# Altium schematic symbol library Adams Altium Library.SchLib: 70 symbols
Pins are listed as number, name and electrical type; pins without a type are passive.

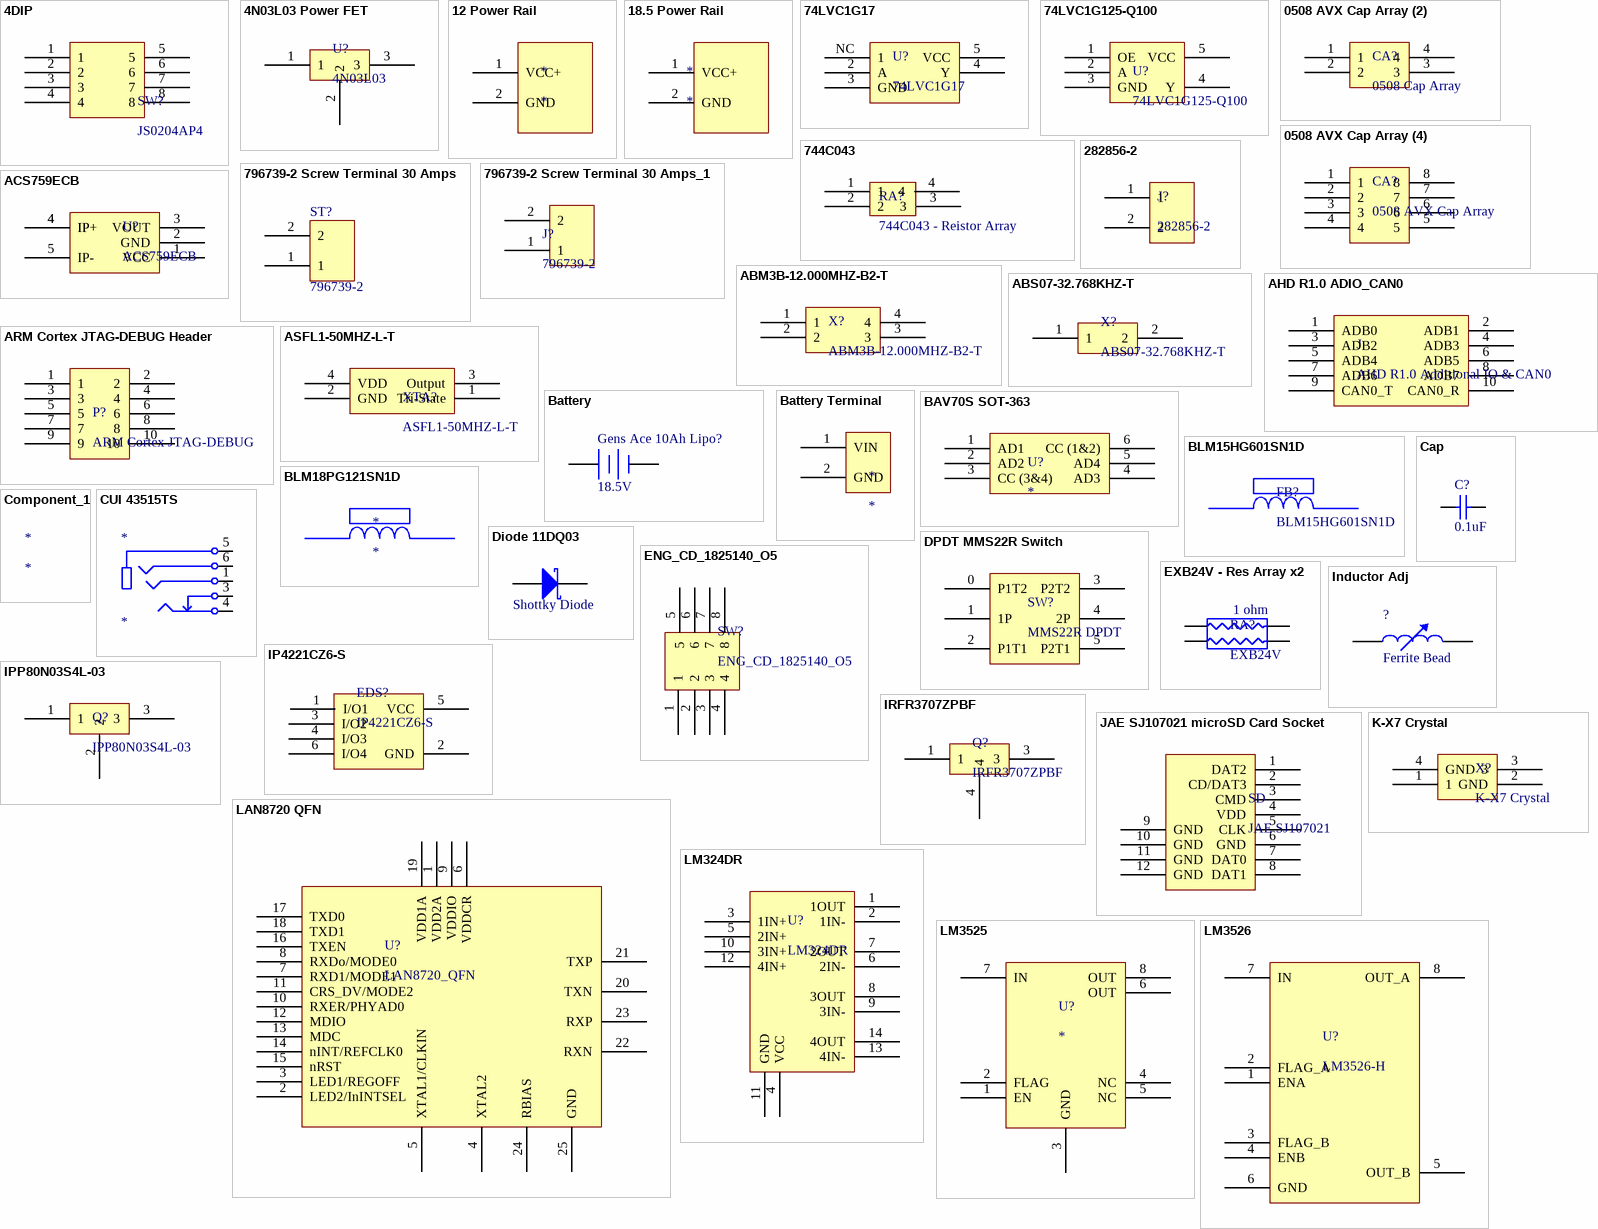
[diagram p0: symbols 4DIP to LM3526]

## 4DIP
designator SW?, comment JS0204AP4
footprint JS0204AP4 (4DIP)
pins: 1, 2, 3, 4, 5, 6, 7, 8

## 4N03L03 Power FET
designator U?, comment 4N03L03
Power FET
footprint IPB04N03LA (Power-Transistor)
pins: 1, 2, 3

## 12 Power Rail
designator *
footprint Power Rail 12
pins: 1 VCC+, 2 GND

## 18.5 Power Rail
designator *
footprint Power Rail Pad (Custom pad for WAVE power rails)
pins: 1 VCC+, 2 GND

## 74LVC1G17
designator U?
footprint 74LVC1G17
pins: 2 A, 3 GND, 4 Y, 5 VCC, NC 1

## 74LVC1G125-Q100
designator U?
footprint 74LVC1G125-Q100 (Line Driver Buffer)
pins: 1 OE, 2 A, 3 GND, 4 Y, 5 VCC

## 0508 AVX Cap Array (2)
designator CA?, comment 0508 Cap Array
footprint 0508 AVX (2) Cap Array (Capacator Array 0508)
pins: 1, 2, 3, 4

## 0508 AVX Cap Array (4)
designator CA?, comment 0508 AVX Cap Array
Capacitor Array
footprint 0508 Cap Array (4) (Capacitor Array)
pins: 1, 2, 3, 4, 5, 6, 7, 8

## 744C043
designator RA?, comment 744C043 - Reistor Array
Resistor Array
footprint 744C0403 (Resistor Array)
pins: 1, 2, 3, 4

## 282856-2
designator J?
Two pole screw terminal
footprint 282856-2 (Screw Terminal  two pole)
pins: 1, 2

## 796739-2 Screw Terminal 30 Amps
designator ST?, comment 796739-2
footprint 796739-2 (796739-2 30Amp Screw Terminal block)
pins: 1, 2

## 796739-2 Screw Terminal 30 Amps_1
designator J?, comment 796739-2
footprint 796739-2 (796739-2 30Amp Screw Terminal block)
pins: 1, 2

## ABM3B-12.000MHZ-B2-T
designator X?
footprint ABM3B-12.000MHZ-B2-T (ABM3B-12.000MHZ-B2-T 12MHZ Crystam Oscillator)
pins: 1, 2, 3, 4

## ABS07-32.768KHZ-T
designator X?
ABS07-32.768KHZ-T RTC Crystal Oscillator
footprint ABS07-32.768KHZ-T (ABS07-32.768KHZ-T Crystal Oscillator)
pins: 1, 2

## ACS759ECB
designator U?
footprint ACS759ECB Round Holes (Current Sensor)
pins: 1 VCC, 2 GND, 3 VOUT, 4 IP+ hidden, 4 IP+, 5 IP-

## AHD R1.0 ADIO_CAN0
designator J, comment AHD R1.0 Additional IO & CAN0
AHD R1.0 Additional Digital IO & CAN0 Breakout
footprint HDR2X5
pins: 1 ADB0, 2 ADB1, 3 ADB2, 4 ADB3, 5 ADB4, 6 ADB5, 7 ADB6, 8 ADB7, 9 CAN0_T, 10 CAN0_R

## ARM Cortex JTAG-DEBUG Header
designator P?, comment ARM Cortex JTAG-DEBUG
footprint FTSH-105-XX-X-DV (1.27mm pitch, 10 pin, terminal strip; vertical, SMT)
pins: 1, 2, 3, 4, 5, 6, 7, 8, 9, 10

## ASFL1-50MHZ-L-T
designator XTA?
footprint ASFL1-50MHZ-L-T (Abracon ASFL1-50MHZ-L-T 50MHZ Crystal Oscillator)
pins: 1 Tri-State, 2 GND, 3 Output, 4 VDD

## Battery
designator Gens Ace 10Ah Lipo?, comment 18.5V
Multicell Battery; Published: 24-Mar-1999; LatestRevisionDate: 17-Jul-2002; LatestRevisionNote: Re-released for DXP Platform.; PackageReference: BAT-2; Publisher: Altium Limited; PackageDescription: Battery; 2 Leads
footprint BAT-2 (Battery; 2 Leads)
pins: 1 +, 2 -

## Battery Terminal
designator *
footprint Battery Terminal (Custom batery Terminal)
pins: 1 VIN, 2 GND

## BAV70S SOT-363
designator U?
footprint BAV70S_SOT363 (SOT23, 6-Leads, Body 2.2x2.2mm (max), Pitch 0.65mm, IPC Medium Density)
pins: 1 AD1 "Anode (Diode 1)", 2 AD2 "Anode (Diode 2)", 3 CC (3&4) "Common Cathode 1 & 2", 4 AD3 "Anode Diode 3", 5 AD4 "Anode Diode 4", 6 CC (1&2) "Common Cathode 3&4"

## BLM15HG601SN1D
designator FB?
footprint BLM18PG121SN1D (Chip Inductor, 2-Leads, Body 1.0x0.5mm, IPC Medium Density)
pins: 1, 2

## BLM18PG121SN1D
designator *
footprint BLM18PG121SN1D (Chip Inductor, 2-Leads, Body 1.0x0.5mm, IPC Medium Density)
pins: 1, 2

## Cap
designator C?  value 0.1uF
Capacitor; Published: 8-Jun-2000; LatestRevisionDate: 17-Jul-2002; LatestRevisionNote: Re-released for DXP Platform.; PackageReference: RAD-0.3; Publisher: Altium Limited; PackageDescription: Radial Cap, Thru-Hole; 2 Leads; 0.3 in Pin Spacing
footprint RAD-0.3 (Radial Cap, Thru-Hole; 2 Leads; 0.3 in Pin Spacing)
simulation model CAP (Capacitor)
signal-integrity model Cap
pins: 1, 2

## Component_1
designator *

## CUI 43515TS
designator *
footprint CUI SJ-43515TS
pins: 1 R1, 3 TS, 4 TIP, 5 SLEEVE, 6 R2

## Diode 11DQ03
designator D?, comment Shottky Diode
Schottky Rectifier; Published: 8-Jun-2000; LatestRevisionDate: 17-Jul-2002; LatestRevisionNote: Re-released for DXP Platform.; DatasheetVersion: Dec-1997; PackageReference: DO-204AL; Publisher: Altium Limited; PackageDescription: Diode, Axial; Body 5.2 x 2.7 mm (LxDia. max), Lead Dia. 0.86 mm (max); Code_JEDEC: DO-204-AL; ComponentLink1Description: Manufacturer Link; ComponentLink1URL: http://www.irf.com/; ComponentLink2Description: Datasheet; ComponentLink2URL: http://www.irf.com/product-info/datasheets/data/11dq03.pdf
footprint DO-204AL (Diode, Axial; Body 5.2 x 2.7 mm (LxDia. max), Lead Dia. 0.86 mm (max))
simulation model 11DQ03 (DIODE)
pins: 1 A, 2 K

## DPDT MMS22R Switch
designator SW?, comment MMS22R DPDT
Double Pole Double Throw
footprint DPDT Switch (MMS22R)
pins: 0 P1T2, 1 1P, 2 P1T1, 3 P2T2, 4 2P, 5 P2T1

## ENG_CD_1825140_O5
designator SW?
4 Dip Siwtch
footprint ENG_CD_1825140_O5 (4 DIP)
pins: 1, 2, 3, 4, 5, 6, 7, 8

## EXB24V - Res Array x2
designator RA?, comment EXB24V  value 1 ohm
footprint EXB24V - Res Array x2 (Panasonic Resistor Array)
pins: 1, 2, 3, 4

## Inductor Adj
designator ?, comment Ferrite Bead
Adjustable Inductor; Set Position: 0.5; Published: 24-Mar-1999; LatestRevisionDate: 17-Jul-2002; LatestRevisionNote: Re-released for DXP Platform.; PackageReference: AXIAL-0.8; Publisher: Altium Limited; PackageDescription: Axial Device, Thru-Hole; 2 Leads; 0.8 in Pin Spacing
footprint AXIAL-0.8 (Axial Device, Thru-Hole; 2 Leads; 0.8 in Pin Spacing)
simulation model INDUCTOR (Inductor)
signal-integrity model Inductor Adj
pins: 1, 2

## IP4221CZ6-S
designator EDS?
footprint IP4221CZ6-S (ESD Protection IC)
pins: 1 I/O1, 2 GND, 3 I/O2, 4 I/O3, 5 VCC, 6 I/O4

## IPP80N03S4L-03
designator Q?
Power FET TO220 Package
footprint TO-220 (TO, Thru-Hole, Vertical, Heatsink Mounted; 3 In-Line Leads; Pitch 2.54 mm)
pins: 1 "Gate", 2 "Drain", 3 "Source"

## IRFR3707ZPBF
designator Q?
Power FET
footprint IRFR3707ZPBF (Power FET)
pins: 1, 3, 4

## JAE SJ107021 microSD Card Socket
designator SD, comment JAE SJ107021
footprint JAE SJ107021 (MicroSD card socket)
pins: 1 DAT2, 2 CD/DAT3, 3 CMD, 4 VDD, 5 CLK, 6 GND, 7 DAT0, 8 DAT1, 9 GND, 10 GND, 11 GND, 12 GND

## K-X7 Crystal
designator X?
Crystal Oscillator; Value: ?Hz
footprint KX-7 (Crystal Oscillator)
pins: 1, 2 GND, 3, 4 GND

## LAN8720 QFN
designator U?, comment LAN8720_QFN
footprint LAN8720_QFN (QFN, 24-Leads, Body 4.1x4.1mm (max), Pitch 0.50mm, IPC Medium Density)
pins: 1 VDD2A, 2 LED2/InINTSEL, 3 LED1/REGOFF, 4 XTAL2, 5 XTAL1/CLKIN, 6 VDDCR, 7 RXD1/MODE1, 8 RXDo/MODE0, 9 VDDIO, 10 RXER/PHYAD0, 11 CRS_DV/MODE2, 12 MDIO, 13 MDC, 14 nINT/REFCLK0, 15 nRST, 16 TXEN, 17 TXD0, 18 TXD1, 19 VDD1A, 20 TXN, 21 TXP, 22 RXN, 23 RXP, 24 RBIAS, 25 GND

## LM324DR
designator U?
footprint LM324DR - duplicate (LM324DR OPAMP)
pins: 1 1OUT, 2 1IN-, 3 1IN+, 4 VCC, 5 2IN+, 6 2IN-, 7 2OUT, 8 3OUT, 9 3IN-, 10 3IN+, 11 GND, 12 4IN+, 13 4IN-, 14 4OUT

## LM3525
designator U?
LM3525
footprint LM3525
pins: 1 EN, 2 FLAG, 3 GND, 4 NC, 5 NC, 6 OUT, 7 IN, 8 OUT

## LM3526
designator U?, comment LM3526-H
pins: 1 ENA, 2 FLAG_A, 3 FLAG_B, 4 ENB, 5 OUT_B, 6 GND, 7 IN, 8 OUT_A

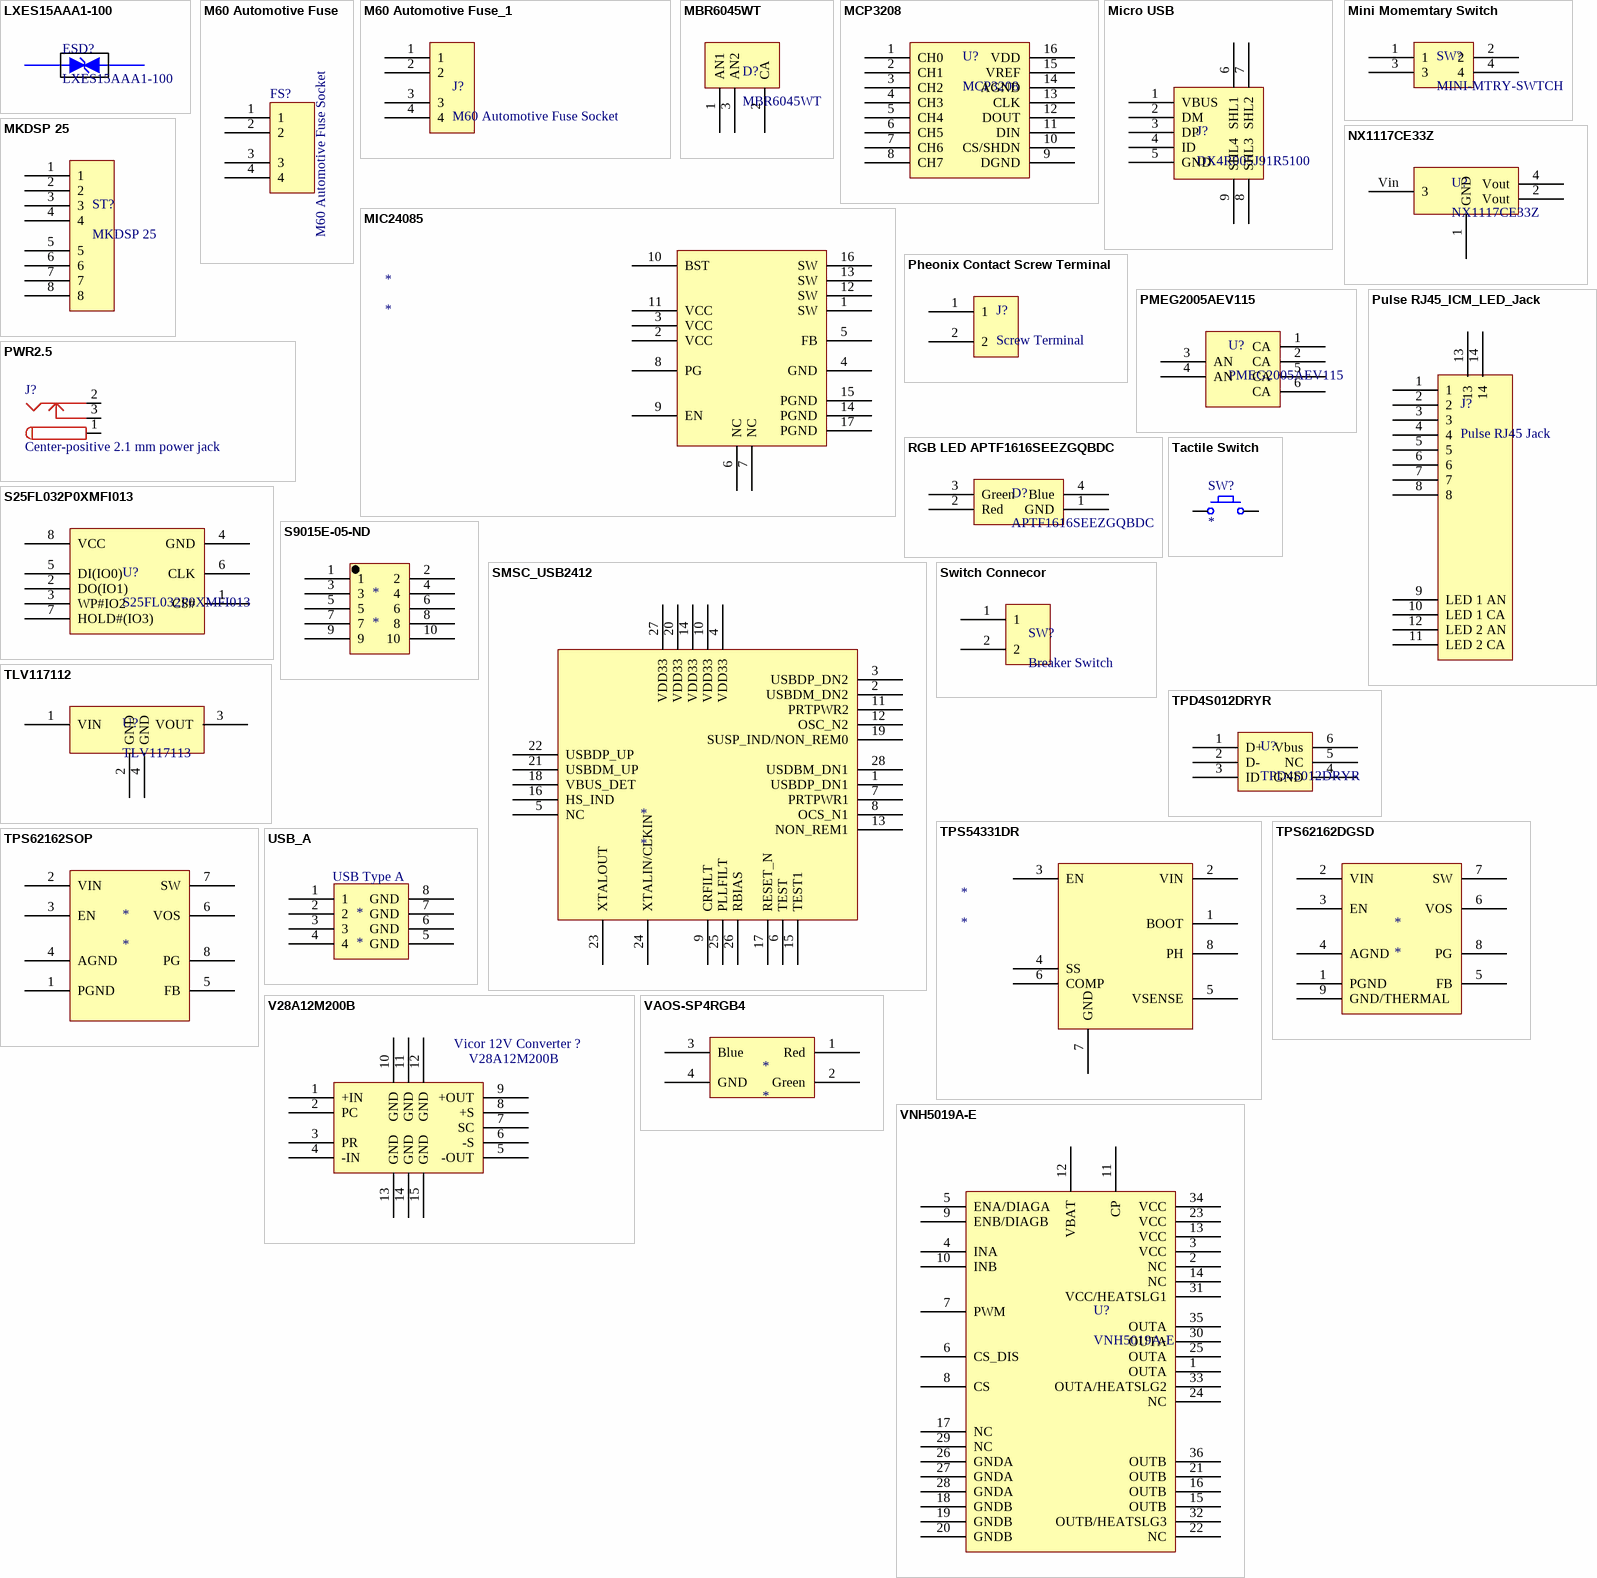
[diagram p1: symbols LXES15AAA1-100 to VNH5019A-E]

## LXES15AAA1-100
designator ESD?
Inline ESD protection Diode
footprint LXES ESD Device
pins: A, K

## M60 Automotive Fuse
designator FS?, comment M60 Automotive Fuse Socket
Automotive Fuse Socket
footprint M60 (Automotive Fuse Socket)
pins: 1, 2, 3, 4

## M60 Automotive Fuse_1
designator J?, comment M60 Automotive Fuse Socket
Automotive Fuse Socket
footprint M60 (Automotive Fuse Socket)
pins: 1, 2, 3, 4

## MBR6045WT
designator D?
footprint MBR6045WT (Rectifier Diode)
pins: 1 AN1, 2 CA, 3 AN2

## MCP3208
designator U?
footprint MCP3208 - duplicate (MCP3208 8 Channel ADC)
pins: 1 CH0, 2 CH1, 3 CH2, 4 CH3, 5 CH4, 6 CH5, 7 CH6, 8 CH7, 9 DGND, 10 CS/SHDN, 11 DIN, 12 DOUT, 13 CLK, 14 AGND, 15 VREF, 16 VDD

## MIC24085
designator *
footprint MIC24085-AYML (QFN, 16-Leads, Body 3.25x3.25mm, Pitch 0.50mm, Thermal Pad 1.73x1.73mm, IPC Medium Density)
pins: 1 SW, 2 VCC, 3 VCC, 4 GND, 5 FB, 6 NC, 7 NC, 8 PG, 9 EN, 10 BST, 11 VCC, 12 SW, 13 SW, 14 PGND, 15 PGND, 16 SW, 17 PGND

## Micro USB
designator J?, comment DX4R005J91R5100
Micro USB Jack B
footprint micro USB
pins: 1 VBUS, 2 DM, 3 DP, 4 ID, 5 GND, 6 SHL1, 7 SHL2, 8 SHL3, 9 SHL4

## Mini Momemtary Switch
designator SW?, comment MINI-MTRY-SWTCH
footprint Momentary Switch (Momentary switch for reset)
pins: 1, 2, 3, 4

## MKDSP 25
designator ST?
High Current Screw Terminal
footprint MKDSP 25 (MKDSP 25 High Current Screw Terminal)
pins: 1, 2, 3, 4, 5, 6, 7, 8

## NX1117CE33Z
designator U?
3.3v Linear Regulator
footprint NX1117CE33Z (3.3v linear regulator)
pins: 1 GND, 2 Vout, 4 Vout, Vin 3

## Pheonix Contact Screw Terminal
designator J?, comment Screw Terminal
Pheonix Contact Screw Terminal
footprint Pheonix Contact Screw Terminal
pins: 1, 2

## PMEG2005AEV115
designator U?
pins: 1 CA, 2 CA, 3 AN, 4 AN, 5 CA, 6 CA

## Pulse RJ45_ICM_LED_Jack
designator J?, comment Pulse RJ45 Jack
footprint J0006D21BNL (RJ45 Integrated Magnetics and LEDs)
pins: 1, 2, 3, 4, 5, 6, 7, 8, 9 LED 1 AN, 10 LED 1 CA, 11 LED 2 CA, 12 LED 2 AN, 13, 14

## PWR2.5
designator J?, comment Center-positive 2.1 mm power jack
Power jack; Published: 17-Dec-2003; DatasheetDocument: 09-May-2002; Publisher: Altium Limited; ComponentLink1Description: Manufacturer Link; ComponentLink1URL: http://domino.kycon.com/internet/Products.html
signal-integrity model Connector
footprint PJ-102AH (Center positive 2.1 mm power jack)
pins: 1 (power), 2 (power), 3 (power)

## RGB LED APTF1616SEEZGQBDC
designator D?, comment APTF1616SEEZGQBDC
RGB LED
footprint RGB LED APTF1616SEEZGQBDC (RGB LED)
pins: 1 GND, 2 Red, 3 Green, 4 Blue

## S25FL032P0XMFI013
designator U?
footprint S25FL032P0XMFI013 (SOP, 8-Leads, Body 5.3x5.3mm (max), Pitch 1.27mm, IPC Medium Density)
pins: 1 CS#, 2 DO(IO1), 3 WP#IO2, 4 GND, 5 DI(IO0), 6 CLK, 7 HOLD#(IO3), 8 VCC

## S9015E-05-ND
designator *
footprint S9015E-05-ND (10 Pin Cortex JTAG Debug Header)
pins: 1, 2, 3, 4, 5, 6, 7, 8, 9, 10

## SMSC_USB2412
designator *
footprint SMSC_USB2412 (QFN, 28-Leads, Body 5.1x5.1mm (max), Pitch 0.50mm, IPC Medium Density)
pins: 1 USBDP_DN1, 2 USBDM_DN2, 3 USBDP_DN2, 4 VDD33, 5 NC, 6 TEST, 7 PRTPWR1, 8 OCS_N1, 9 CRFILT, 10 VDD33, 11 PRTPWR2, 12 OSC_N2, 13 NON_REM1, 14 VDD33, 15 TEST1, 16 HS_IND, 17 RESET_N, 18 VBUS_DET, 19 SUSP_IND/NON_REM0, 20 VDD33, 21 USBDM_UP, 22 USBDP_UP, 23 XTALOUT, 24 XTALIN/CLKIN, 25 PLLFILT, 26 RBIAS, 27 VDD33, 28 USDBM_DN1

## Switch Connecor
designator SW?, comment Breaker Switch
Breaker Switch Connector
footprint Breaker Switch Connection
pins: 1, 2

## Tactile Switch
designator SW?
footprint tactile switch
footprint ITT Cannon tactile switch
footprint Mountain Switch TS6324T1607
footprint Mountain TS6211
footprint TL3301
footprint KSS221G
footprint KFC-005S-03 Tact Switch
footprint TL1015 Micro Tact Switch
footprint Mountain Switch TS6324T1607
pins: 1, 2

## TLV117112
designator U?, comment TLV117113
Linear Regulator
footprint TLV117112 (SOT223, 4-Leads, Body 6.7x7.3mm (max), Pitch 2.30mm, IPC Medium Density)
pins: 1 VIN, 2 GND, 3 VOUT, 4 GND

## TPD4S012DRYR
designator U?
TPD4S012DRYR USB ESD Protection
pins: 1 D+, 2 D-, 3 ID, 4 GND, 5 NC, 6 Vbus

## TPS54331DR
designator *
pins: 1 BOOT, 2 VIN, 3 EN, 4 SS, 5 VSENSE, 6 COMP, 7 GND, 8 PH

## TPS62162DGSD
designator *
footprint DSG8-1600X900TP (SON, 8-Leads, Body 2x2mm, Pitch 0.5mm, Thermal Pad 1.6x0.9mm, TI Recommended)
pins: 1 PGND, 2 VIN, 3 EN, 4 AGND, 5 FB, 6 VOS, 7 SW, 8 PG, 9 GND/THERMAL

## TPS62162SOP
designator *
footprint TPS62162SOP (SOP 8 pin package)
pins: 1 PGND, 2 VIN, 3 EN, 4 AGND, 5 FB, 6 VOS, 7 SW, 8 PG

## USB_A
designator *
footprint USB-A-S-X-X-SM1
pins: 1, 2, 3, 4, 5 GND, 6 GND, 7 GND, 8 GND
text: USB Type A

## V28A12M200B
designator Vicor 12V Converter ?
V28A12M200B 12V DC/DC Converter
footprint Vicor Maxi DC DC Converter
pins: 1 +IN, 2 PC, 3 PR, 4 -IN, 5 -OUT, 6 -S, 7 SC, 8 +S, 9 +OUT, 10 GND, 11 GND, 12 GND, 13 GND, 14 GND, 15 GND

## VAOS-SP4RGB4
designator *
footprint VAOS-SP4RGB4
pins: 1 Red, 2 Green, 3 Blue, 4 GND

## VNH5019A-E
designator U?
VNH5019A-E H-Bridge
footprint VNH5019A-E (STMicroelectronics VNH5019A-E H-Bridge)
pins: 1 OUTA, 2 NC, 3 VCC, 4 INA, 5 ENA/DIAGA, 6 CS_DIS, 7 PWM, 8 CS, 9 ENB/DIAGB, 10 INB, 11 CP, 12 VBAT, 13 VCC, 14 NC, 15 OUTB, 16 OUTB, 17 NC, 18 GNDB, 19 GNDB, 20 GNDB, 21 OUTB, 22 NC, 23 VCC, 24 NC, 25 OUTA, 26 GNDA, 27 GNDA, 28 GNDA, 29 NC, 30 OUTA, 31 VCC/HEATSLG1, 32 OUTB/HEATSLG3, 33 OUTA/HEATSLG2, 34 VCC, 35 OUTA, 36 OUTB

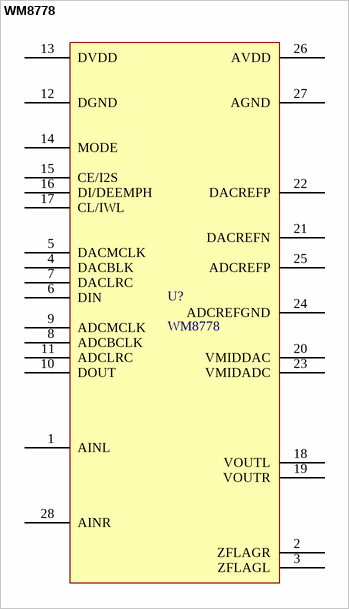
[diagram p2: symbol WM8778]

## WM8778
designator U?
footprint WM8778 (SOP, 28 Pin Wolfson Audio WM8778 Audio Codec)
pins: 1 AINL, 2 ZFLAGR, 3 ZFLAGL, 4 DACBLK, 5 DACMCLK, 6 DIN, 7 DACLRC, 8 ADCBCLK, 9 ADCMCLK, 10 DOUT, 11 ADCLRC, 12 DGND, 13 DVDD, 14 MODE, 15 CE/I2S, 16 DI/DEEMPH, 17 CL/IWL, 18 VOUTL, 19 VOUTR, 20 VMIDDAC, 21 DACREFN, 22 DACREFP, 23 VMIDADC, 24 ADCREFGND, 25 ADCREFP, 26 AVDD, 27 AGND, 28 AINR